# Altium schematic symbol library HEV_SchLib.SchLib: 16 symbols
Pins are listed as number, name and electrical type; pins without a type are passive.

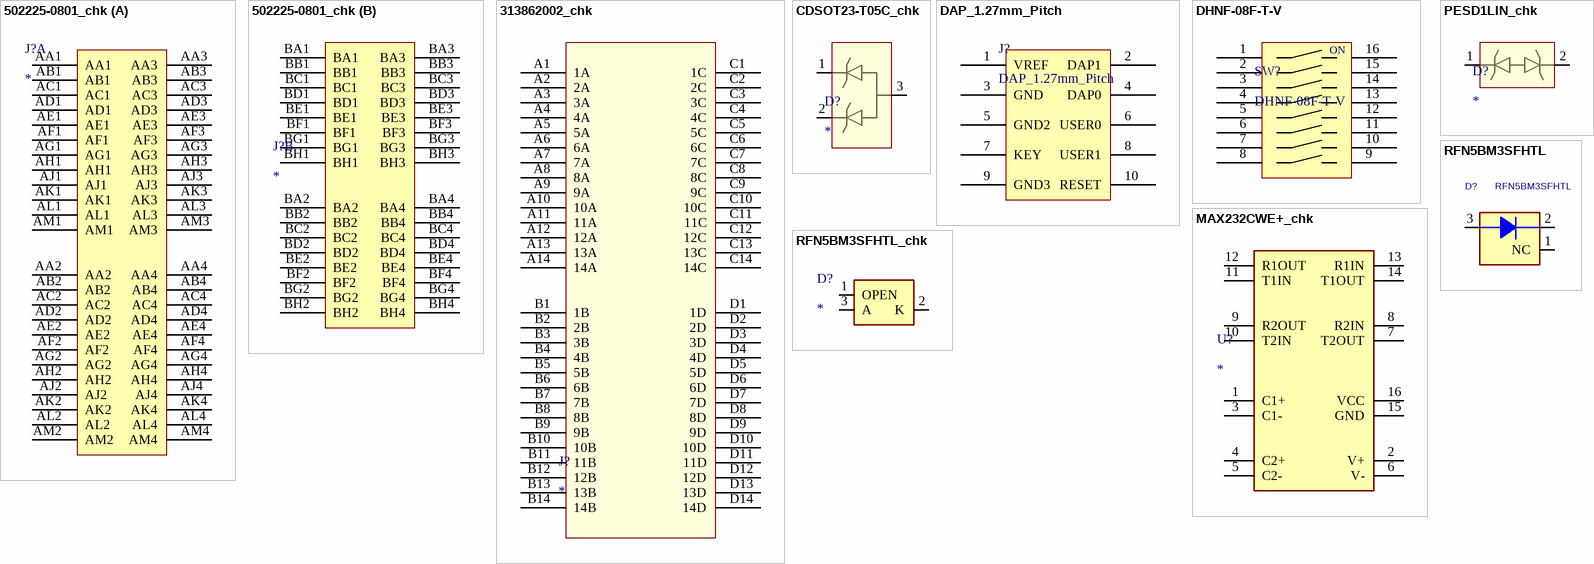
[diagram p0: symbols 502225-0801_chk to RFN5BM3SFHTL_chk]

## 502225-0801_chk
designator J?
Connector; Manufacturer_Name: Molex; Manufacturer_Part_Number: 502225-0801; Datasheet Link: https://www.molex.com/webdocs/datasheets/pdf/en-us/5022250801_PCB_HEADERS.pdf; Height: 27mm; Mouser Part Number: 538-502225-0801; Mouser Price/Stock: https://www.mouser.co.uk/ProductDetail/Molex/502225-0801?qs=cAmtI%252BUad4bv2crBkz4PcQ%3D%3D
footprint 5022250801
part A pins: AA1, AA2, AA3, AA4, AB1, AB2, AB3, AB4, AC1, AC2, AC3, AC4, AD1, AD2, AD3, AD4, AE1, AE2, AE3, AE4, AF1, AF2, AF3, AF4, AG1, AG2, AG3, AG4, AH1, AH2, AH3, AH4, AJ1, AJ2, AJ3, AJ4, AK1, AK2, AK3, AK4, AL1, AL2, AL3, AL4, AM1, AM2, AM3, AM4
part B pins: BA1, BA2, BA3, BA4, BB1, BB2, BB3, BB4, BC1, BC2, BC3, BC4, BD1, BD2, BD3, BD4, BE1, BE2, BE3, BE4, BF1, BF2, BF3, BF4, BG1, BG2, BG3, BG4, BH1, BH2, BH3, BH4

## 313862002_chk
designator J?
pins: A1 1A, A2 2A, A3 3A, A4 4A, A5 5A, A6 6A, A7 7A, A8 8A, A9 9A, A10 10A, A11 11A, A12 12A, A13 13A, A14 14A, B1 1B, B2 2B, B3 3B, B4 4B, B5 5B, B6 6B, B7 7B, B8 8B, B9 9B, B10 10B, B11 11B, B12 12B, B13 13B, B14 14B, C1 1C, C2 2C, C3 3C, C4 4C, C5 5C, C6 6C, C7 7C, C8 8C, C9 9C, C10 10C, C11 11C, C12 12C, C13 13C, C14 14C, D1 1D, D2 2D, D3 3D, D4 4D, D5 5D, D6 6D, D7 7D, D8 8D, D9 9D, D10 10D, D11 11D, D12 12D, D13 13D, D14 14D

## CDSOT23-T05C_chk
designator D?
footprint SOT95P230X117-3N
pins: 1, 2, 3

## DAP_1.27mm_Pitch
designator J?
HEADER; Note: 1.27mm : 20021221-00010C4LF / PRT-22890; PartName: DAP_1.27mm_Pitch; Value: DAP_1.27mm_Pitch; Footprint: *; Made by: *; ComponentLink1Description: Datasheet; ComponentLink1URL: *; ComponentLink2Description: Market; ComponentLink2URL: https://www.mouser.kr/ProductDetail/SparkFun/PRT-22890?qs=HoCaDK9Nz5fpWPFiXz81YQ%3D%3D
footprint HEADER_1.27MM_5*2_DAP (HEADER_1.27MM_5*2)
pins: 1 VREF, 2 DAP1, 3 GND, 4 DAP0, 5 GND2, 6 USER0, 7 KEY, 8 USER1, 9 GND3, 10 RESET

## DHNF-08F-T-V
designator SW?
Made by: Diptronics; PartName: DHNF-08F-T-V; Value: DHNF-08F-T-V; Footprint: TSON-10; Note: *; ComponentLink1Description: Datasheet; ComponentLink1URL: https://www.mouser.kr/datasheet/2/196/Infineon_TLF11251LD_DataSheet_v01_03_EN-3363822.pdf; ComponentLink2Description: Market; ComponentLink2URL: https://www.mouser.kr/ProductDetail/Infineon-Technologies/TLF11251LDXUMA1?qs=GedFDFLaBXHsWdCUr65DXg%3D%3D&srsltid=AfmBOoojYiuZsD2e8Qv5qwc0QDJZF_WtkTEZcl-iNoEZFogtTKesBbNA
footprint DHNF-08F-T-V
pins: 1, 2, 3, 4, 5, 6, 7, 8, 9, 10, 11, 12, 13, 14, 15, 16
text: ON

## MAX232CWE+_chk
designator U?
Integrated Circuit; Manufacturer_Name: Analog Devices; Manufacturer_Part_Number: MAX232CWE+; Datasheet Link: http://datasheets.maximintegrated.com/en/ds/MAX220-MAX249.pdf; Height: 2.65mm; Mouser Part Number: 700-MAX232CWE; Mouser Price/Stock: https://www.mouser.co.uk/ProductDetail/Maxim-Integrated/MAX232CWE%2b?qs=1THa7WoU59H%252BqePK7P5dmQ%3D%3D
footprint SOIC127P1032X265-16N
pins: 1 C1+, 2 V+, 3 C1-, 4 C2+, 5 C2-, 6 V-, 7 T2OUT, 8 R2IN, 9 R2OUT, 10 T2IN, 11 T1IN, 12 R1OUT, 13 R1IN, 14 T1OUT, 15 GND, 16 VCC

## PESD1LIN_chk
designator D?
pins: 1, 2

## RFN5BM3SFHTL
designator D?
Made by: Nexperia; Note: Voltage References; PartName: RFN5BM3SFHTL; Value: RFN5BM3SFHTL; Footprint: TO-252-3; ComponentLink1Description: Datasheet; ComponentLink1URL: https://fscdn.rohm.com/en/products/databook/datasheet/discrete/diode/fast_recovery/rfn5bm3sfh-e.pdf; ComponentLink2Description: Market; ComponentLink2URL: https://www.mouser.kr/ProductDetail/ROHM-Semiconductor/RFN5BM3SFHTL?qs=yrxrYnY23DGQzIIBHy5huQ%3D%3D&srsltid=AfmBOopdEl22eg0THTPLMlItcyqJWsmiwFFBqOaRU_rxvcagNWnOFyWA
pins: 1 NC, 2 REF, 3 A

## RFN5BM3SFHTL_chk
designator D?
Diode; Manufacturer_Name: ROHM Semiconductor; Manufacturer_Part_Number: RFN5BM3SFHTL; Datasheet Link: https://fscdn.rohm.com/en/techdata_basic/diode/dimension/Dimension_TO-252-e.pdf; Mouser Part Number: 755-RFN5BM3SFHTL; Mouser Price/Stock: https://www.mouser.com/Search/Refine.aspx?Keyword=755-RFN5BM3SFHTL
footprint RD3P175SNFRATL
pins: 1 OPEN, 2 K, 3 A

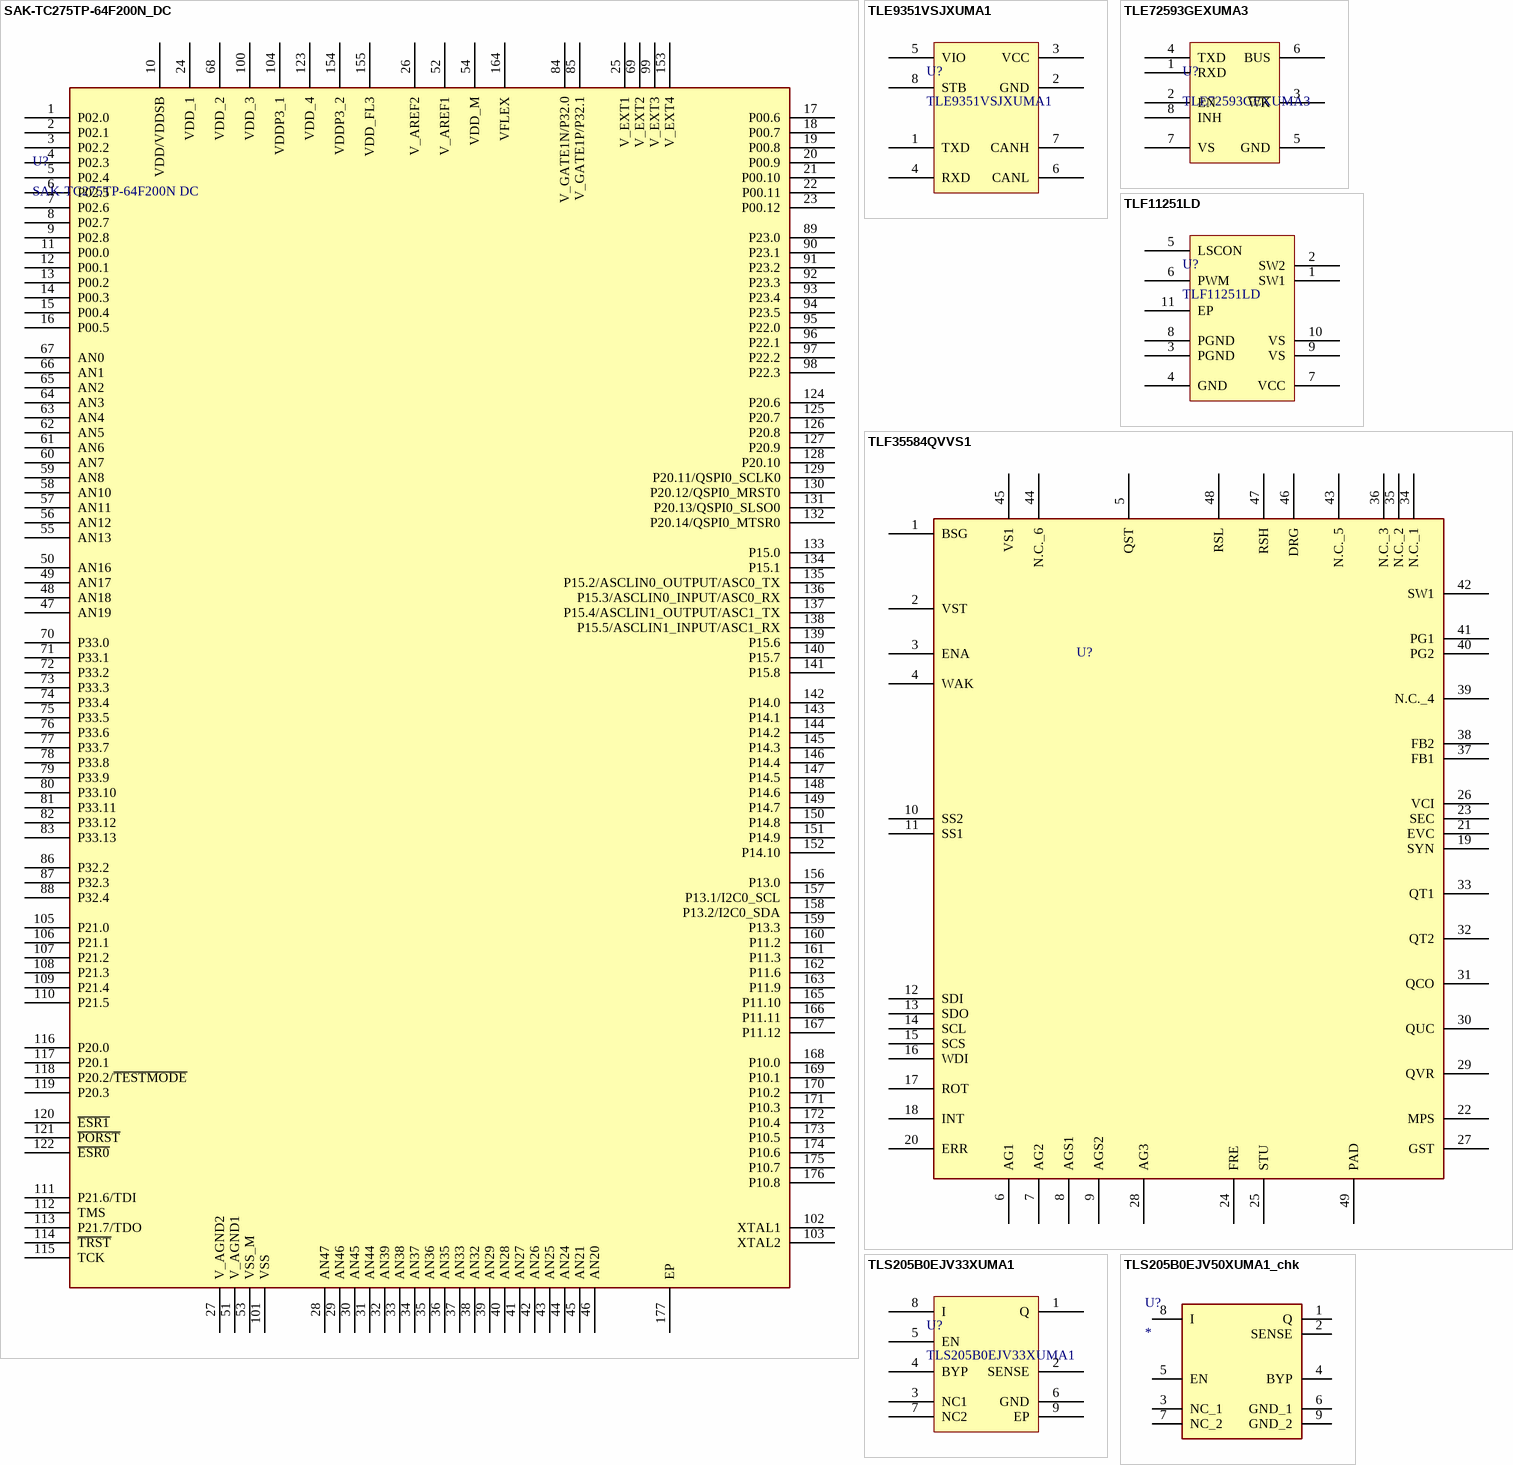
[diagram p1: symbols SAK-TC275TP-64F200N_DC to TLS205B0EJV50XUMA1_chk]

## SAK-TC275TP-64F200N_DC
designator U?, comment SAK-TC275TP-64F200N DC
Integrated Circuit; Made by: Infineon; PartName: SAK-TC275TP-64F200N DC; Value: SAK-TC275TP-64F200N DC; Footprint: QFP176; Note: *; ComponentLink1Description: Datasheet; ComponentLink1URL: https://www.mouser.kr/ProductDetail/Infineon-Technologies/TC275TP64F200NDCKXUMA1?qs=QIiuLP2W41AWWre1942iWg%3D%3D; ComponentLink2Description: Market; ComponentLink2URL: https://www.mouser.kr/datasheet/2/196/Infineon_TC27xDC_DataSheet_v01_00_EN-3363658.pdf
footprint QFP50P2600X2600X160-177N
pins: 1 P02.0, 2 P02.1, 3 P02.2, 4 P02.3, 5 P02.4, 6 P02.5, 7 P02.6, 8 P02.7, 9 P02.8, 10 VDD/VDDSB, 11 P00.0, 12 P00.1, 13 P00.2, 14 P00.3, 15 P00.4, 16 P00.5, 17 P00.6, 18 P00.7, 19 P00.8, 20 P00.9, 21 P00.10, 22 P00.11, 23 P00.12, 24 VDD_1, 25 V_EXT1, 26 V_AREF2, 27 V_AGND2, 28 AN47, 29 AN46, 30 AN45, 31 AN44, 32 AN39, 33 AN38, 34 AN37, 35 AN36, 36 AN35, 37 AN33, 38 AN32, 39 AN29, 40 AN28, 41 AN27, 42 AN26, 43 AN25, 44 AN24, 45 AN21, 46 AN20, 47 AN19, 48 AN18, 49 AN17, 50 AN16, 51 V_AGND1, 52 V_AREF1, 53 VSS_M, 54 VDD_M, 55 AN13, 56 AN12, 57 AN11, 58 AN10, 59 AN8, 60 AN7, 61 AN6, 62 AN5, 63 AN4, 64 AN3, 65 AN2, 66 AN1, 67 AN0, 68 VDD_2, 69 V_EXT2, 70 P33.0, 71 P33.1, 72 P33.2, 73 P33.3, 74 P33.4, 75 P33.5, 76 P33.6, 77 P33.7, 78 P33.8, 79 P33.9, 80 P33.10, 81 P33.11, 82 P33.12, 83 P33.13, 84 V_GATE1N/P32.0, 85 V_GATE1P/P32.1, 86 P32.2, 87 P32.3, 88 P32.4, 89 P23.0, 90 P23.1, 91 P23.2, 92 P23.3, 93 P23.4, 94 P23.5, 95 P22.0, 96 P22.1, 97 P22.2, 98 P22.3, 99 V_EXT3, 100 VDD_3, 101 VSS, 102 XTAL1, 103 XTAL2, 104 VDDP3_1, 105 P21.0, 106 P21.1, 107 P21.2, 108 P21.3, 109 P21.4, 110 P21.5, 111 P21.6/TDI, 112 TMS, 113 P21.7/TDO, 114 ~{TRST}, 115 TCK, 116 P20.0, 117 P20.1, 118 P20.2/~{TESTMODE}, 119 P20.3, 120 ~{ESR1}, 121 ~{PORST}, 122 ~{ESR0}, 123 VDD_4, 124 P20.6, 125 P20.7, 126 P20.8, 127 P20.9, 128 P20.10, 129 P20.11/QSPI0_SCLK0, 130 P20.12/QSPI0_MRST0, 131 P20.13/QSPI0_SLSO0, 132 P20.14/QSPI0_MTSR0, 133 P15.0, 134 P15.1, 135 P15.2/ASCLIN0_OUTPUT/ASC0_TX, 136 P15.3/ASCLIN0_INPUT/ASC0_RX, 137 P15.4/ASCLIN1_OUTPUT/ASC1_TX, 138 P15.5/ASCLIN1_INPUT/ASC1_RX, 139 P15.6, 140 P15.7, 141 P15.8, 142 P14.0, 143 P14.1, 144 P14.2, 145 P14.3, 146 P14.4, 147 P14.5, 148 P14.6, 149 P14.7, 150 P14.8, 151 P14.9, 152 P14.10, 153 V_EXT4, 154 VDDP3_2, 155 VDD_FL3, 156 P13.0, 157 P13.1/I2C0_SCL, 158 P13.2/I2C0_SDA, 159 P13.3, 160 P11.2, 161 P11.3, 162 P11.6, 163 P11.9, 164 VFLEX, 165 P11.10, 166 P11.11, 167 P11.12, 168 P10.0, 169 P10.1, 170 P10.2, 171 P10.3, 172 P10.4, 173 P10.5, 174 P10.6, 175 P10.7, 176 P10.8, 177 EP

## TLE9351VSJXUMA1
designator U?
Made by: Infineon; PartName: TLE9351VSJXUMA1; Value: TLE9351VSJXUMA1; Footprint: DSO-8; Note: *; ComponentLink1Description: Datasheet; ComponentLink1URL: https://www.mouser.kr/datasheet/2/196/Infineon_TLE9251V_DataSheet_v01_11_EN-3364017.pdf; ComponentLink2Description: Market; ComponentLink2URL: https://www.mouser.kr/ProductDetail/Infineon-Technologies/TLE9251VSJXUMA1?qs=u4fy%2FsgLU9Nld%2FIoDfZmmw%3D%3D&srsltid=AfmBOorVd1QGEEjOMRY-36fGmKn4R0k9VBcKnU3hVSD_LhTppEk1e2_I
footprint SOIC127P600X175-8N
pins: 1 TXD, 2 GND, 3 VCC, 4 RXD, 5 VIO, 6 CANL, 7 CANH, 8 STB

## TLE72593GEXUMA3
designator U?
Made by: Infineon; PartName: TLE72593GEXUMA3; Value: TLE72593GEXUMA3; Footprint: DSO-8; Note: *; ComponentLink1Description: Datasheet; ComponentLink1URL: https://www.mouser.kr/datasheet/2/196/Infineon_TLE7259_3_DS_v01_00_EN-1227906.pdf; ComponentLink2Description: Market; ComponentLink2URL: https://www.mouser.kr/ProductDetail/Infineon-Technologies/TLE72593GEXUMA3?qs=%252BbzPfv9VPAEL1eeIIG5t8A%3D%3D
footprint SOIC127P600X175-8N
pins: 1 RXD, 2 EN, 3 ~{WK}, 4 TXD, 5 GND, 6 BUS, 7 VS, 8 INH

## TLF11251LD
designator U?
Made by: Infineon; PartName: TLF11251LD; Value: TLF11251LD; Footprint: TSON-10; Note: *; ComponentLink1Description: Datasheet; ComponentLink1URL: https://www.mouser.kr/datasheet/2/196/Infineon_TLF11251LD_DataSheet_v01_03_EN-3363822.pdf; ComponentLink2Description: Market; ComponentLink2URL: https://www.mouser.kr/ProductDetail/Infineon-Technologies/TLF11251LDXUMA1?qs=GedFDFLaBXHsWdCUr65DXg%3D%3D&srsltid=AfmBOoojYiuZsD2e8Qv5qwc0QDJZF_WtkTEZcl-iNoEZFogtTKesBbNA
footprint SON50P330X330X110-11N-V (SON,0.50mm pitch;10 pin,3.30mm W X 3.30mm L X 1.10mm H body (w/thermal tab))
pins: 1 SW1, 2 SW2, 3 PGND, 4 GND, 5 LSCON, 6 PWM, 7 VCC, 8 PGND, 9 VS, 10 VS, 11 EP

## TLF35584QVVS1
designator U?  (value not drawn)
TLF35584QVVS1 is a multiple output system supply for safety-relevant applications supplying 5V-uC; Made by: Infineon; PartName: TLF35584QVVS1; ComponentLink1Description: Datasheet; ComponentLink1URL: https://www.mouser.kr/datasheet/2/196/Infineon_TLF35584QV_ProductOverview_DataSheet_v01_-3167808.pdf; ComponentLink2Description: Market; ComponentLink2URL: https://www.mouser.kr/ProductDetail/Infineon-Technologies/TLF35584QVVS1XUMA2?qs=HXFqYaX1Q2zSGy1PWWJW7A%3D%3D; Value: TLF35584QVVS1; Footprint: PG-VQFN-48; Note: *
footprint PG-VQFN-48
pins: 1 BSG, 2 VST, 3 ENA, 4 WAK, 5 QST, 6 AG1, 7 AG2, 8 AGS1, 9 AGS2, 10 SS2, 11 SS1, 12 SDI, 13 SDO, 14 SCL, 15 SCS, 16 WDI, 17 ROT, 18 INT, 19 SYN, 20 ERR, 21 EVC, 22 MPS, 23 SEC, 24 FRE, 25 STU, 26 VCI, 27 GST, 28 AG3, 29 QVR, 30 QUC, 31 QCO, 32 QT2, 33 QT1, 34 N.C._1, 35 N.C._2, 36 N.C._3, 37 FB1, 38 FB2, 39 N.C._4, 40 PG2, 41 PG1, 42 SW1, 43 N.C._5, 44 N.C._6, 45 VS1, 46 DRG, 47 RSH, 48 RSL, 49 PAD

## TLS205B0EJV33XUMA1
designator U?
Made by: Infineon; PartName: TLS205B0EJV33XUMA1; Value: TLS205B0EJV33XUMA1; Footprint: SOIC-8; Note: *; ComponentLink1Description: Datasheet; ComponentLink1URL: https://www.mouser.kr/datasheet/2/196/Infineon_TLS205B0_DS_v01_20_EN-1732287.pdf; ComponentLink2Description: Market; ComponentLink2URL: https://www.mouser.kr/ProductDetail/Infineon-Technologies/TLS205B0EJV33XUMA1?qs=3Bi3m9r5MQbjj1ZVBTWQww%3D%3D&srsltid=AfmBOopZpgi4tTnYNiJA7Vo_R7XU6IEGjSuNfXs5Ab9kzIgGBRy5RBV5
footprint SOIC127P600X170-9N-3 (TLS205B0EJ V33)
pins: 1 Q, 2 SENSE, 3 NC1, 4 BYP, 5 EN, 6 GND, 7 NC2, 8 I, 9 EP

## TLS205B0EJV50XUMA1_chk
designator U?
Integrated Circuit; Manufacturer_Name: Infineon; Manufacturer_Part_Number: TLS205B0EJV50XUMA1; Datasheet Link: https://www.infineon.com/dgdl/Infineon-TLS205B0V50-DS-v01_10-EN.pdf?fileId=5546d46258fc0bc1015969dadc094224; Height: 1.7mm; Mouser Part Number: 726-TLS205B0EJV50XUM; Mouser Price/Stock: https://www.mouser.co.uk/ProductDetail/Infineon-Technologies/TLS205B0EJV50XUMA1?qs=3Bi3m9r5MQaaw8mZ7UaoIQ%3D%3D; Arrow Part Number: TLS205B0EJV50XUMA1; Arrow Price/Stock: https://www.arrow.com/en/products/tls205b0ejv50xuma1/infineon-technologies-ag?region=nac
footprint SOIC127P600X170-9N
pins: 1 Q, 2 SENSE, 3 NC_1, 4 BYP, 5 EN, 6 GND_1, 7 NC_2, 8 I, 9 GND_2